# Altium schematic symbol library Keystone Battery.SchLib: 1 symbol
Pins are listed as number, name and electrical type; pins without a type are passive.

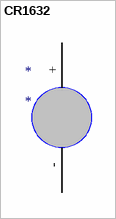
[diagram p0: symbol CR1632]

## CR1632
designator *
footprint Keystone CR1632 Holder
pins: + (power), - (power)